# EAGLE library part BEAGLEBONE_OUTLINE (library Strawson_Eagle_Lib)
Should match A3 pinout - but not completely tested
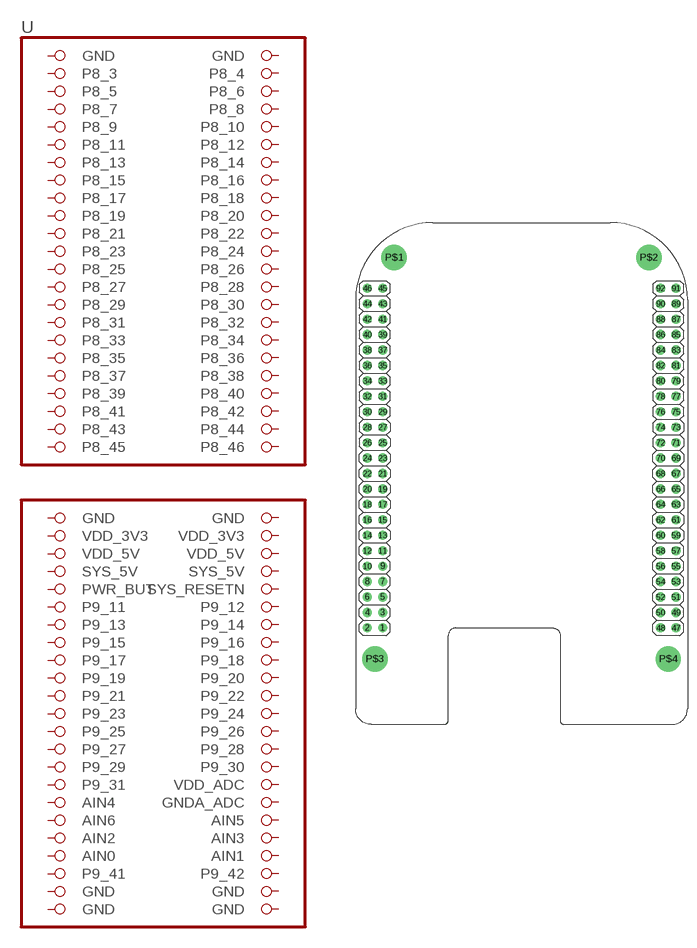
[diagram p1: symbol with the pads of BEAGLEBONE_SHIELD; footprint BEAGLEBONE_SHIELD]

Designator prefix -

## BEAGLEBONE_OUTLINE  [BEAGLEBONE_SHIELD]
1  GND  pwr
2  GND  pwr
3  P8_3  pas
4  P8_4  pas
5  P8_5  pas
6  P8_6  pas
7  P8_7  pas
8  P8_8  pas
9  P8_9  pas
10  P8_10  pas
11  P8_11  pas
12  P8_12  pas
13  P8_13  pas
14  P8_14  pas
15  P8_15  pas
16  P8_16  pas
17  P8_17  pas
18  P8_18  pas
19  P8_19  pas
20  P8_20  pas
21  P8_21  pas
22  P8_22  pas
23  P8_23  pas
24  P8_24  pas
25  P8_25  pas
26  P8_26  pas
27  P8_27  pas
28  P8_28  pas
29  P8_29  pas
30  P8_30  pas
31  P8_31  pas
32  P8_32  pas
33  P8_33  pas
34  P8_34  pas
35  P8_35  pas
36  P8_36  pas
37  P8_37  pas
38  P8_38  pas
39  P8_39  pas
40  P8_40  pas
41  P8_41  pas
42  P8_42  pas
43  P8_43  pas
44  P8_44  pas
45  P8_45  pas
46  P8_46  pas
47  GND  pwr
48  GND  pwr
49  VDD_3V3  pwr
50  VDD_3V3  pwr
51  VDD_5V  pwr
52  VDD_5V  pwr
53  SYS_5V  pwr
54  SYS_5V  pas
55  PWR_BUT  pas
56  SYS_RESETN  pas
57  P9_11  pas
58  P9_12  pas
59  P9_13  pas
60  P9_14  pas
61  P9_15  pas
62  P9_16  pas
63  P9_17  pas
64  P9_18  pas
65  P9_19  pas
66  P9_20  pas
67  P9_21  pas
68  P9_22  pas
69  P9_23  pas
70  P9_24  pas
71  P9_25  pas
72  P9_26  pas
73  P9_27  pas
74  P9_28  pas
75  P9_29  pas
76  P9_30  pas
77  P9_31  pas
78  VDD_ADC  pas
79  AIN4  pas
80  GNDA_ADC  pas
81  AIN6  pas
82  AIN5  pas
83  AIN2  pas
84  AIN3  pas
85  AIN0  pwr
86  AIN1  pas
87  P9_41  in
88  P9_42  pas
89  GND  pwr
90  GND  pwr
91  GND  pwr
92  GND  pwr

## Footprint BEAGLEBONE_SHIELD (pad centres in mm)
drill 1: 1 4.445,19.685; 2 1.905,19.685; 3 4.445,22.225; 4 1.905,22.225; 5 4.445,24.765; 6 1.905,24.765; 7 4.445,27.305; 8 1.905,27.305; 9 4.445,29.845; 10 1.905,29.845; 11 4.445,32.385; 12 1.905,32.385; 13 4.445,34.925; 14 1.905,34.925; 15 4.445,37.465; 16 1.905,37.465; 17 4.445,40.005; 18 1.905,40.005; 19 4.445,42.545; 20 1.905,42.545; 21 4.445,45.085; 22 1.905,45.085; 23 4.445,47.625; 24 1.905,47.625; 25 4.445,50.165; 26 1.905,50.165; 27 4.445,52.705; 28 1.905,52.705; 29 4.445,55.245; 30 1.905,55.245; 31 4.445,57.785; 32 1.905,57.785; 33 4.445,60.325; 34 1.905,60.325; 35 4.445,62.865; 36 1.905,62.865; 37 4.445,65.405; 38 1.905,65.405; 39 4.445,67.945; 40 1.905,67.945; 41 4.445,70.485; 42 1.905,70.485; 43 4.445,73.025; 44 1.905,73.025; 45 4.445,75.565; 46 1.905,75.565; 47 52.705,19.685; 48 50.165,19.685; 49 52.705,22.225; 50 50.165,22.225; 51 52.705,24.765; 52 50.165,24.765; 53 52.705,27.305; 54 50.165,27.305; 55 52.705,29.845; 56 50.165,29.845; 57 52.705,32.385; 58 50.165,32.385; 59 52.705,34.925; 60 50.165,34.925; 61 52.705,37.465; 62 50.165,37.465; 63 52.705,40.005; 64 50.165,40.005; 65 52.705,42.545; 66 50.165,42.545; 67 52.705,45.085; 68 50.165,45.085; 69 52.705,47.625; 70 50.165,47.625; 71 52.705,50.165; 72 50.165,50.165; 73 52.705,52.705; 74 50.165,52.705; 75 52.705,55.245; 76 50.165,55.245; 77 52.705,57.785; 78 50.165,57.785; 79 52.705,60.325; 80 50.165,60.325; 81 52.705,62.865; 82 50.165,62.865; 83 52.705,65.405; 84 50.165,65.405; 85 52.705,67.945; 86 50.165,67.945; 87 52.705,70.485; 88 50.165,70.485; 89 52.705,73.025; 90 50.165,73.025; 91 52.705,75.565; 92 50.165,75.565
drill 3.175: P$1 6.35,80.645; P$2 48.26,80.645; P$3 3.175,14.605; P$4 51.435,14.605